# Altium schematic symbol library STM32.SchLib: 8 symbols
Pins are listed as number, name and electrical type; pins without a type are passive.

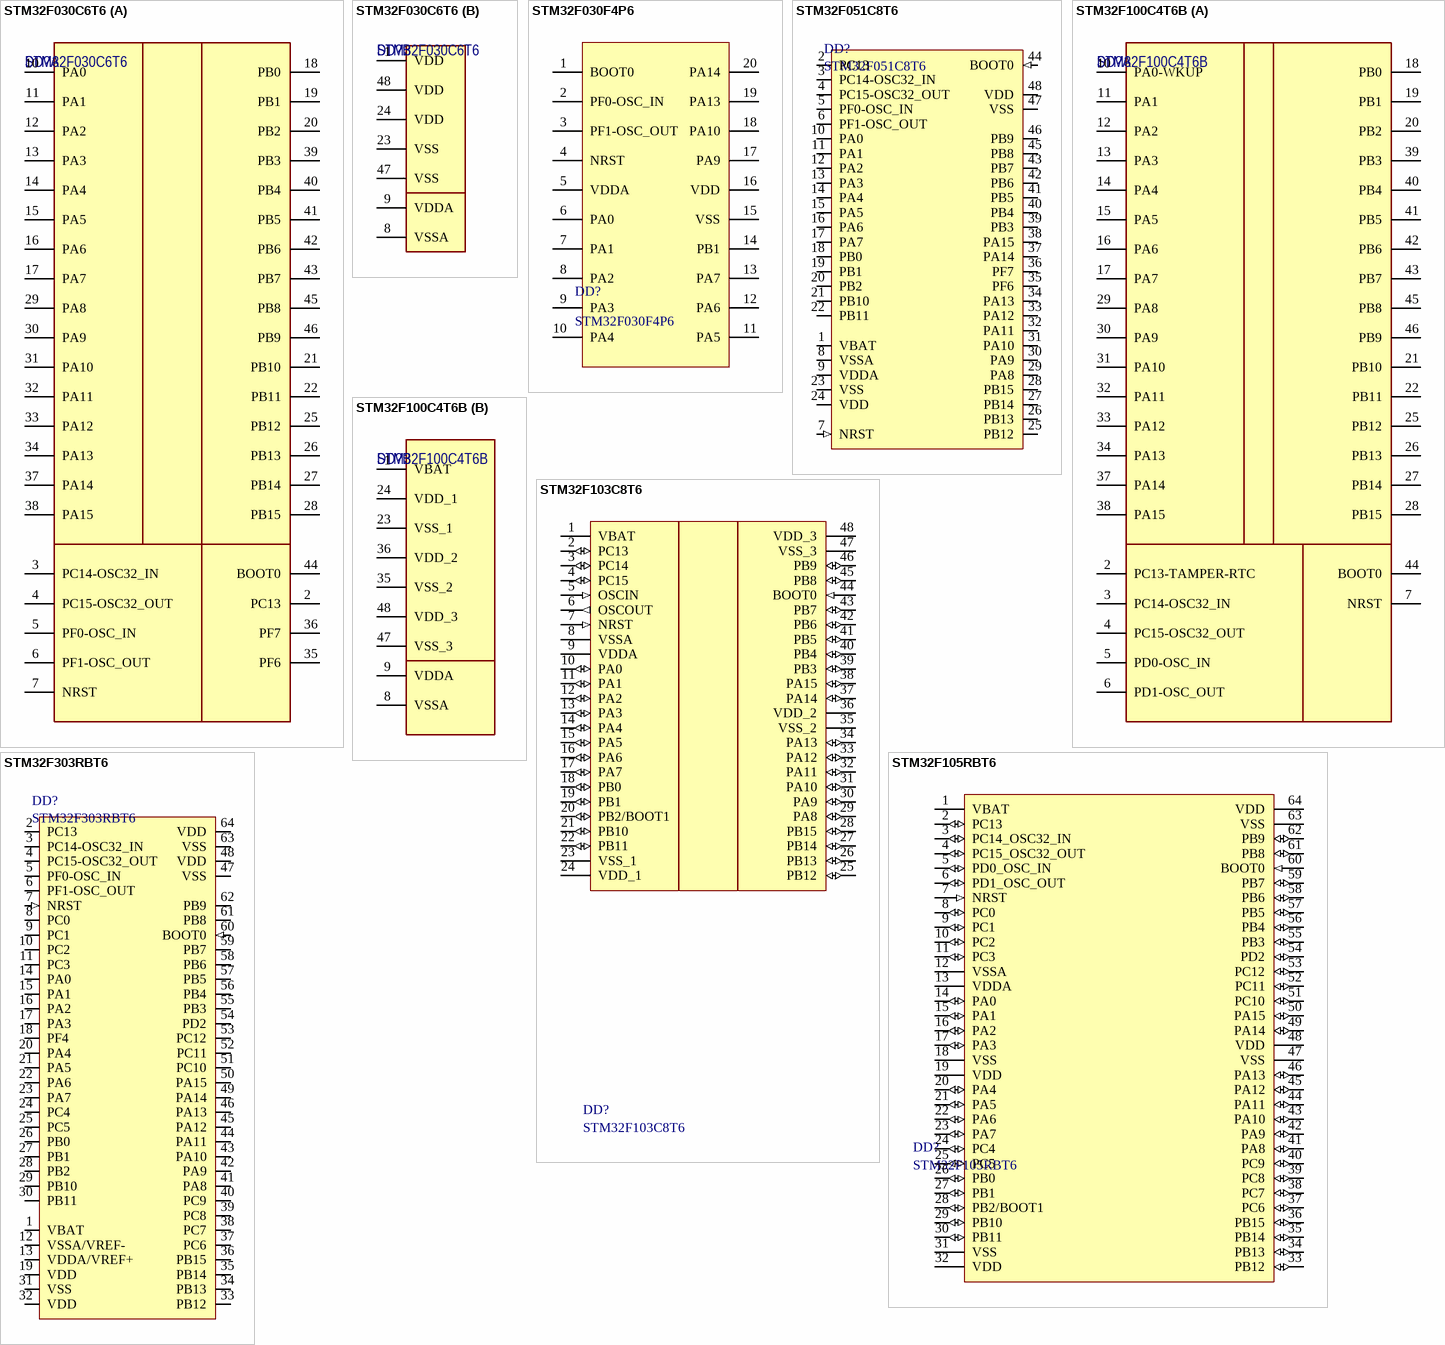
[diagram p0: symbols STM32F030C6T6 to STM32F303RBT6]

## STM32F030C6T6
designator DD?
Микроконтроллер ARM; Flash:32кБ; 48МГц; SRAM:4кБ; LQFP48; Manufacturer: ST MICROELECTRONICS; ComponentLink1URL: http://www.tme.eu/ru/details/stm32f030c6t6/mikrokontrolljery-st/st-microelectronics/; ComponentLink1Description: http://www.tme.eu/ru/details/stm32f030c6t6/mikrokontrolljery-st/st-microelectronics/; ManufacturerPartNumber: STM32F030C6T6; Note: *; Price: 110; Supplier: Промэлектроника
footprint LQFP48-7x7 (TSQFP, 48-Leads, Body 7,00x7,00mm, Pitch 0,50mm, IPC Low Density)
part A pins: 2 PC13, 3 PC14-OSC32_IN, 4 PC15-OSC32_OUT, 5 PF0-OSC_IN, 6 PF1-OSC_OUT, 7 NRST, 10 PA0, 11 PA1, 12 PA2, 13 PA3, 14 PA4, 15 PA5, 16 PA6, 17 PA7, 18 PB0, 19 PB1, 20 PB2, 21 PB10, 22 PB11, 25 PB12, 26 PB13, 27 PB14, 28 PB15, 29 PA8, 30 PA9, 31 PA10, 32 PA11, 33 PA12, 34 PA13, 35 PF6, 36 PF7, 37 PA14, 38 PA15, 39 PB3, 40 PB4, 41 PB5, 42 PB6, 43 PB7, 44 BOOT0, 45 PB8, 46 PB9
part B pins: 1 VDD, 8 VSSA, 9 VDDA, 23 VSS, 24 VDD, 47 VSS, 48 VDD

## STM32F030F4P6
designator DD?
MCU 32-bit STM32 ARM Cortex M0 RISC 16KB Flash 2.5V/3.3V 20-Pin TSSOP Tray; Manufacturer: STMicroelectronics; Max Supply Voltage: 3.6V; Frequency: 48MHz; Interface: I2C,SPI,UART,USART; RAM Size: 4KB; Max Power Dissipation: 182mW; Number of I/Os: 15; Number of Timers/Counters: 5; Min Supply Voltage: 2.4V; Number of ADC Channels: 16; Oscillator Type: Internal; Data Bus Width: 32b; Number of SPI Channels: 1; Watchdog Timer: Yes; Peripherals: POR,PWM,WDT,DMA; Number of PWM Channels: 6; Supplier 1: Digi-Key; ManufacturerPartNumber: STM32F030F4P6; Stock 1: 3757; Pricing 1: 1=1.37, 10=1.221, 100=0.9522, 500=0.7866, 1000=0.621 (USD); Case/Package: TSSOP; Number of Pins: 20; Contact Plating: Nickel,Gold; Min Operating Temperature: -40°C; Max Operating Temperature: 85°C; Package Quantity: 74; Packaging: Rail/Tube; Number of Programmable I/O: 15; Max Frequency: 48MHz; Number of I2C Channels: 1; Memory Type: FLASH; Memory Size: 16KB; Core Architecture: ARM; Length: 6.6mm; Height: 1.05mm; Width: 4.5mm; Radiation Hardening: No; REACH SVHC: No SVHC; Lead Free: Lead Free; ComponentLink1URL: https://datasheet.ciiva.com/29720/dm00088500-29720640.pdf; ComponentLink1Description: https://datasheet.ciiva.com/29720/dm00088500-29720640.pdf; ComponentLink2URL: https://datasheet.ciiva.com/24153/dm00088500-24153277.pdf; ComponentLink2Description: https://datasheet.ciiva.com/24153/dm00088500-24153277.pdf; ComponentLink3URL: https://datasheet.ciiva.com/24011/dm00088500-490353-24011901.pdf; ComponentLink3Description: https://datasheet.ciiva.com/24011/dm00088500-490353-24011901.pdf; ComponentLink4URL: https://datasheet.ciiva.com/29987/dm00088500-29987015.pdf; ComponentLink4Description: https://datasheet.ciiva.com/29987/dm00088500-29987015.pdf; Supplier Part Number 1: 497-14044-5-ND
footprint TSOP65P640X120-20N (TSOP, 20-Leads, Body 6,50x4,40mm, Pitch 0,65mm, IPC Medium Density)
pins: 1 BOOT0, 2 PF0-OSC_IN, 3 PF1-OSC_OUT, 4 NRST, 5 VDDA, 6 PA0, 7 PA1, 8 PA2, 9 PA3, 10 PA4, 11 PA5, 12 PA6, 13 PA7, 14 PB1, 15 VSS, 16 VDD, 17 PA9, 18 PA10, 19 PA13, 20 PA14

## STM32F051C8T6
designator DD?
IC MCU 32BIT 64KB FLASH 48LQFP; Manufacturer: STMicroelectronics; Frequency: 48MHz; RAM Size: 8KB; Max Supply Voltage: 3.6V; Number of Timers/Counters: 8; Max Power Dissipation: 364mW; Interface: I2C,SPI,HDMI,I2S,IrDA,UART,USART,LIN; Number of I/Os: 39; Number of ADC Channels: 13; Min Supply Voltage: 2V; Data Bus Width: 32b; Oscillator Type: Internal; Watchdog Timer: Yes; Peripherals: POR,PWM,WDT,DMA,I2C; Core Architecture: ARM; Number of PWM Channels: 1; Number of SPI Channels: 2; Supplier 1: Digi-Key; Manufacturer Part Number: STM32F051C8T6; Stock 1: 16869; Pricing 1: 1=2.87, 10=2.576, 100=2.0704, 500=1.701, 1000=1.4094 (USD); Case/Package: LQFP; Number of Pins: 48; Contact Plating: Tin,Gold; Min Operating Temperature: -40°C; Max Operating Temperature: 85°C; Package Quantity: 1500; Packaging: Tray; Number of Programmable I/O: 39; Max Frequency: 48MHz; Memory Type: FLASH; Memory Size: 64KB; Number of I2C Channels: 2; Length: 7.2mm; Height: 1.45mm; Width: 7.2mm; Radiation Hardening: No; REACH SVHC: No SVHC; Lead Free: Lead Free; ComponentLink1URL: https://datasheet.ciiva.com/25627/0900766b810e518b-25627967.pdf; ComponentLink1Description: https://datasheet.ciiva.com/25627/0900766b810e518b-25627967.pdf; ComponentLink2URL: https://datasheet.ciiva.com/4842/dm00039193-490390-4842310.pdf; ComponentLink2Description: https://datasheet.ciiva.com/4842/dm00039193-490390-4842310.pdf; ComponentLink3URL: https://datasheet.ciiva.com/16490/dm00039193-16490854.pdf; ComponentLink3Description: https://datasheet.ciiva.com/16490/dm00039193-16490854.pdf; ComponentLink4URL: https://datasheet.ciiva.com/9224/dm00039193-9224905.pdf; ComponentLink4Description: https://datasheet.ciiva.com/9224/dm00039193-9224905.pdf; Supplier Part Number 1: 497-12893-ND
footprint LQFP48-7x7 (TSQFP, 48-Leads, Body 7,00x7,00mm, Pitch 0,50mm, IPC Low Density)
pins: 1 VBAT (power), 2 PC13 (io), 3 PC14-OSC32_IN (io), 4 PC15-OSC32_OUT (io), 5 PF0-OSC_IN (io), 6 PF1-OSC_OUT (io), 7 NRST (in), 8 VSSA (power), 9 VDDA (power), 10 PA0 (io), 11 PA1 (io), 12 PA2 (io), 13 PA3 (io), 14 PA4 (io), 15 PA5 (io), 16 PA6 (io), 17 PA7 (io), 18 PB0 (io), 19 PB1 (io), 20 PB2 (io), 21 PB10 (io), 22 PB11 (io), 23 VSS (power), 24 VDD (power), 25 PB12 (io), 26 PB13 (io), 27 PB14 (io), 28 PB15 (io), 29 PA8 (io), 30 PA9 (io), 31 PA10 (io), 32 PA11 (io), 33 PA12 (io), 34 PA13 (io), 35 PF6 (io), 36 PF7 (io), 37 PA14 (io), 38 PA15 (io), 39 PB3 (io), 40 PB4 (io), 41 PB5 (io), 42 PB6 (io), 43 PB7 (io), 44 BOOT0 (in), 45 PB8 (io), 46 PB9 (io), 47 VSS (power), 48 VDD (power)

## STM32F100C4T6B
designator DD?
Микроконтроллеры ARM 32BIT CORTEX M3 48PINS 16KB; Manufacturer: STMicroelectronics; ManufacturerPartNumber: STM32F100C4T6B; ComponentLink1URL: http://www.mouser.com/ds/2/389/CD00251732-315248.pdf; ComponentLink1Description: http://www.mouser.com/ds/2/389/CD00251732-315248.pdf; Price: 110; Note: *; Supplier: Промэлектроника
footprint LQFP48-7x7 (TSQFP, 48-Leads, Body 7,00x7,00mm, Pitch 0,50mm, IPC Low Density)
part A pins: 2 PC13-TAMPER-RTC, 3 PC14-OSC32_IN, 4 PC15-OSC32_OUT, 5 PD0-OSC_IN, 6 PD1-OSC_OUT, 7 NRST, 10 PA0-WKUP, 11 PA1, 12 PA2, 13 PA3, 14 PA4, 15 PA5, 16 PA6, 17 PA7, 18 PB0, 19 PB1, 20 PB2, 21 PB10, 22 PB11, 25 PB12, 26 PB13, 27 PB14, 28 PB15, 29 PA8, 30 PA9, 31 PA10, 32 PA11, 33 PA12, 34 PA13, 37 PA14, 38 PA15, 39 PB3, 40 PB4, 41 PB5, 42 PB6, 43 PB7, 44 BOOT0, 45 PB8, 46 PB9
part B pins: 1 VBAT, 8 VSSA, 9 VDDA, 23 VSS_1, 24 VDD_1, 35 VSS_2, 36 VDD_2, 47 VSS_3, 48 VDD_3

## STM32F103C8T6
designator DD?
MCU 32-bit STM32F ARM Cortex M3 RISC 64KB Flash 2.5V/3.3V 48-Pin LQFP Tray; Manufacturer: STMicroelectronics; RAM Size: 20KB; Frequency: 72MHz; Number of Timers/Counters: 4; Number of ADC Channels: 10; Data Bus Width: 32b; Number of Bits: 32; Max Power Dissipation: 363mW; Interface: I2C,SPI,USB,CAN,IrDA,UART,USART,LIN; Number of I/Os: 37; Max Supply Voltage: 3.6V; Min Supply Voltage: 2V; Oscillator Type: Internal; Number of Programmable I/O: 48; Number of SPI Channels: 2; Watchdog Timer: Yes; Peripherals: POR,PWM,WDT,DMA,Temp Sensor,I2C; Number of PWM Channels: 1; Supplier 1: Mouser; Manufacturer Part Number: STM32F103C8T6; Stock 1: 7154; Pricing 1: 1=6.05, 10=5.15, 50=5.15, 100=4.46, 1000=3.2, 10000=3.04 (USD); Case/Package: LQFP; Number of Pins: 48; Min Operating Temperature: -40°C; Max Operating Temperature: 85°C; Packaging: Tray; Density: 64KB; Memory Type: FLASH; Max Frequency: 72MHz; Memory Size: 64KB; Core Architecture: ARM; Package Quantity: 250; Number of I2C Channels: 2; Termination: SMD/SMT; Address Bus Width: 32b; Length: 7mm; Height: 1.45mm; Width: 7.2mm; Radiation Hardening: No; Lead Free: Lead Free; REACH SVHC: No SVHC; ComponentLink1URL: https://datasheet.ciiva.com/15122/getdatasheetpartid-69880-15122076.pdf; ComponentLink1Description: https://datasheet.ciiva.com/15122/getdatasheetpartid-69880-15122076.pdf; ComponentLink2URL: https://datasheet.ciiva.com/26816/stm32f103c8t6-26816902.pdf; ComponentLink2Description: https://datasheet.ciiva.com/26816/stm32f103c8t6-26816902.pdf; ComponentLink3URL: https://datasheet.ciiva.com/16210/cd00161566-16210248.pdf; ComponentLink3Description: https://datasheet.ciiva.com/16210/cd00161566-16210248.pdf; ComponentLink4URL: https://datasheet.ciiva.com/14100/pustm-arm-microcont-stm32f103-en-14100508.pdf; ComponentLink4Description: https://datasheet.ciiva.com/14100/pustm-arm-microcont-stm32f103-en-14100508.pdf; ComponentLink5URL: https://datasheet.ciiva.com/8054/1730126-8054942.pdf; ComponentLink5Description: https://datasheet.ciiva.com/8054/1730126-8054942.pdf; ComponentLink6URL: https://datasheet.ciiva.com/48687/001075658-da-01-en-mcu-64kb-mem-stm32f103c8t6-lqfp-48-stm-48687589.pdf; ComponentLink6Description: https://datasheet.ciiva.com/48687/001075658-da-01-en-mcu-64kb-mem-stm32f103c8t6-lqfp-48-stm-48687589.pdf; Supplier Part Number 1: 511-STM32F103C8T6
footprint LQFP48-7x7 (TSQFP, 48-Leads, Body 7,00x7,00mm, Pitch 0,50mm, IPC Low Density)
pins: 1 VBAT (power), 2 PC13 (io), 3 PC14 (io), 4 PC15 (io), 5 OSCIN (in), 6 OSCOUT (out), 7 NRST (in), 8 VSSA (power), 9 VDDA (power), 10 PA0 (io), 11 PA1 (io), 12 PA2 (io), 13 PA3 (io), 14 PA4 (io), 15 PA5 (io), 16 PA6 (io), 17 PA7 (io), 18 PB0 (io), 19 PB1 (io), 20 PB2/BOOT1 (io), 21 PB10 (io), 22 PB11 (io), 23 VSS_1, 24 VDD_1, 25 PB12 (io), 26 PB13 (io), 27 PB14 (io), 28 PB15 (io), 29 PA8 (io), 30 PA9 (io), 31 PA10 (io), 32 PA11 (io), 33 PA12 (io), 34 PA13 (io), 35 VSS_2 (power), 36 VDD_2 (power), 37 PA14 (io), 38 PA15 (io), 39 PB3 (io), 40 PB4 (io), 41 PB5 (io), 42 PB6 (io), 43 PB7 (io), 44 BOOT0 (in), 45 PB8 (io), 46 PB9 (io), 47 VSS_3 (power), 48 VDD_3 (power)

## STM32F105RBT6
designator DD?
ARM Microcontrollers - MCU 32BIT Cortex 64/25 CONNECTIVITY LINE M3; Manufacturer: STMicroelectronics; Interface: I2C,SPI,USB,CAN,I2S,IrDA,UART,USART,LIN; Number of Timers/Counters: 7; Frequency: 72MHz; RAM Size: 32KB; Max Supply Voltage: 3.6V; Number of I/Os: 51; Max Power Dissipation: 444mW; Min Supply Voltage: 2V; Data Bus Width: 32b; Oscillator Type: Internal; Watchdog Timer: Yes; Memory Type: FLASH; Memory Size: 128KB; Peripherals: POR,PWM,WDT,DMA,Voltage Detect,I2C; Number of PWM Channels: 16; Number of SPI Channels: 3; Number of I2C Channels: 2; Supplier 1: Mouser; Manufacturer Part Number: STM32F105RBT6; Stock 1: 2575; Pricing 1: 1=7.14, 10=6.46, 50=6.16, 100=5.34, 1000=4.06, 10000=4.06 (USD); Case/Package: LQFP; Number of Pins: 64; Min Operating Temperature: -40°C; Max Operating Temperature: 85°C; Package Quantity: 160; Packaging: Tray; Number of Programmable I/O: 51; Max Frequency: 72MHz; Core Architecture: ARM; Number of ADC Channels: 16; Density: 128KB; Termination: SMD/SMT; Length: 10mm; Height: 1.45mm; Width: 10mm; Radiation Hardening: No; Lead Free: Lead Free; REACH SVHC: No SVHC; ComponentLink1URL: https://datasheet.ciiva.com/15122/getdatasheetpartid-113902-15122350.pdf; ComponentLink1Description: https://datasheet.ciiva.com/15122/getdatasheetpartid-113902-15122350.pdf; ComponentLink2URL: https://datasheet.ciiva.com/26817/stm32f105rbt6-26817326.pdf; ComponentLink2Description: https://datasheet.ciiva.com/26817/stm32f105rbt6-26817326.pdf; ComponentLink3URL: https://datasheet.ciiva.com/8054/1805458-8054982.pdf; ComponentLink3Description: https://datasheet.ciiva.com/8054/1805458-8054982.pdf; ComponentLink4URL: https://datasheet.ciiva.com/48687/001075692-da-01-en-mcu-128kb-mem-stm32f105rbt6-lqfp-64-stm-48687452.pdf; ComponentLink4Description: https://datasheet.ciiva.com/48687/001075692-da-01-en-mcu-128kb-mem-stm32f105rbt6-lqfp-64-stm-48687452.pdf; Supplier Part Number 1: 511-STM32F105RBT6
footprint LQFP64-10x10 (LQFP, 64-Leads, Body 10,00x10,00mm, Pitch 0,50mm, IPC Medium Density)
pins: 1 VBAT (power), 2 PC13 (io), 3 PC14_OSC32_IN (io), 4 PC15_OSC32_OUT (io), 5 PD0_OSC_IN (io), 6 PD1_OSC_OUT (io), 7 NRST (in), 8 PC0 (io), 9 PC1 (io), 10 PC2 (io), 11 PC3 (io), 12 VSSA (power), 13 VDDA (power), 14 PA0 (io), 15 PA1 (io), 16 PA2 (io), 17 PA3 (io), 18 VSS (power), 19 VDD (power), 20 PA4 (io), 21 PA5 (io), 22 PA6 (io), 23 PA7 (io), 24 PC4 (io), 25 PC5 (io), 26 PB0 (io), 27 PB1 (io), 28 PB2/BOOT1 (io), 29 PB10 (io), 30 PB11 (io), 31 VSS (power), 32 VDD (power), 33 PB12 (io), 34 PB13 (io), 35 PB14 (io), 36 PB15 (io), 37 PC6 (io), 38 PC7 (io), 39 PC8 (io), 40 PC9 (io), 41 PA8 (io), 42 PA9 (io), 43 PA10 (io), 44 PA11 (io), 45 PA12 (io), 46 PA13 (io), 47 VSS (power), 48 VDD (power), 49 PA14 (io), 50 PA15 (io), 51 PC10 (io), 52 PC11 (io), 53 PC12 (io), 54 PD2 (io), 55 PB3 (io), 56 PB4 (io), 57 PB5 (io), 58 PB6 (io), 59 PB7 (io), 60 BOOT0 (in), 61 PB8 (io), 62 PB9 (io), 63 VSS (power), 64 VDD (power)

## STM32F303RBT6
designator DD?
ARM Microcontrollers - MCU 32-Bit ARM Cortex M4 72MHz 128kB MCU FPU; Manufacturer: STMicroelectronics; RAM Size: 32KB; Max Supply Voltage: 3.6V; Number of I/Os: 27; Min Supply Voltage: 2V; Number of Timers/Counters: 10; Interface: I2C,SPI,USB,CAN,I2S,IrDA,UART,USART,LIN; Oscillator Type: Internal; Data Bus Width: 32b; Number of USB Channels: 1; Number of ADC Channels: 39; Number of SPI Channels: 3; Number of PWM Channels: 6; Number of I2C Channels: 2; Number of Programmable I/O: 52; Watchdog Timer: Yes; Memory Type: FLASH; Peripherals: POR,PWM,WDT,DMA; Supplier 1: Digi-Key; Manufacturer Part Number: STM32F303RBT6; Stock 1: 1227; Pricing 1: 1=5.55, 10=4.984, 100=4.0833, 500=3.476, 1000=2.9316 (USD); Case/Package: LQFP; Number of Pins: 64; Min Operating Temperature: -40°C; Max Operating Temperature: 85°C; Frequency: 72MHz; Memory Size: 128KB; Package Quantity: 160; Packaging: Tray; Max Frequency: 72MHz; Number of UART Channels: 2; Core Architecture: ARM; Length: 10.2mm; Height: 1.45mm; Width: 10.2mm; Radiation Hardening: No; REACH SVHC: No SVHC; Lead Free: Lead Free; ComponentLink1URL: https://datasheet.ciiva.com/29987/dm00058181-29987162.pdf; ComponentLink1Description: https://datasheet.ciiva.com/29987/dm00058181-29987162.pdf; Supplier Part Number 1: 497-17423-ND
footprint LQFP64-10x10 (LQFP, 64-Leads, Body 10,00x10,00mm, Pitch 0,50mm, IPC Medium Density)
pins: 1 VBAT (power), 2 PC13 (io), 3 PC14-OSC32_IN (io), 4 PC15-OSC32_OUT (io), 5 PF0-OSC_IN (io), 6 PF1-OSC_OUT (io), 7 NRST (in), 8 PC0 (io), 9 PC1 (io), 10 PC2 (io), 11 PC3 (io), 12 VSSA/VREF- (power), 13 VDDA/VREF+ (power), 14 PA0 (io), 15 PA1 (io), 16 PA2 (io), 17 PA3 (io), 18 PF4 (io), 19 VDD (power), 20 PA4 (io), 21 PA5 (io), 22 PA6 (io), 23 PA7 (io), 24 PC4 (io), 25 PC5 (io), 26 PB0 (io), 27 PB1 (io), 28 PB2 (io), 29 PB10 (io), 30 PB11 (io), 31 VSS (power), 32 VDD (power), 33 PB12 (io), 34 PB13 (io), 35 PB14 (io), 36 PB15 (io), 37 PC6 (io), 38 PC7 (io), 39 PC8 (io), 40 PC9 (io), 41 PA8 (io), 42 PA9 (io), 43 PA10 (io), 44 PA11 (io), 45 PA12 (io), 46 PA13 (io), 47 VSS (power), 48 VDD (power), 49 PA14 (io), 50 PA15 (io), 51 PC10 (io), 52 PC11 (io), 53 PC12 (io), 54 PD2 (io), 55 PB3 (io), 56 PB4 (io), 57 PB5 (io), 58 PB6 (io), 59 PB7 (io), 60 BOOT0 (in), 61 PB8 (io), 62 PB9 (io), 63 VSS (power), 64 VDD (power)

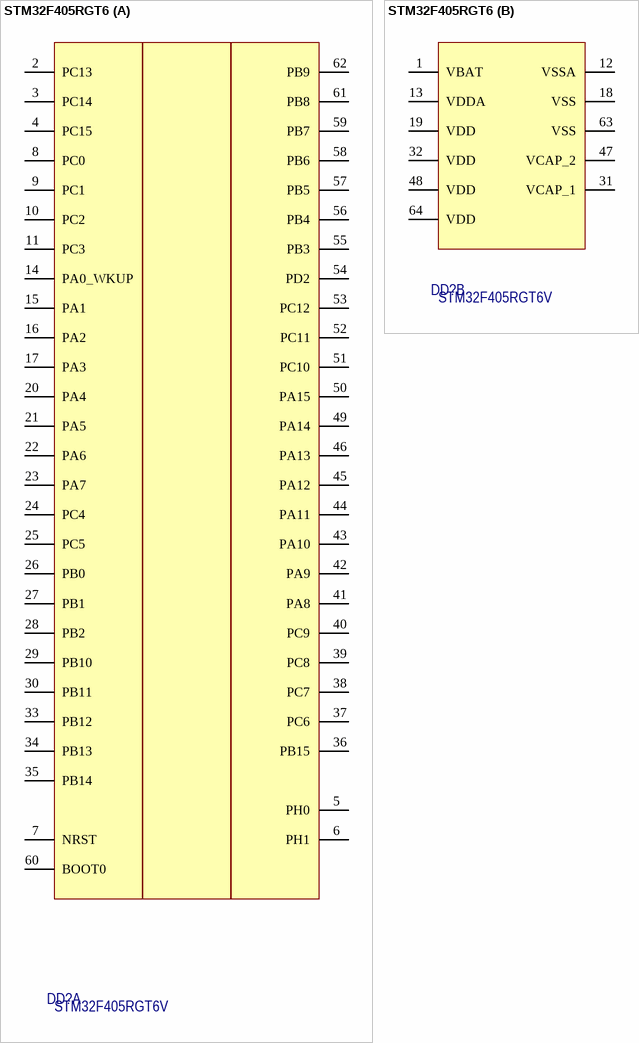
[diagram p1: symbol STM32F405RGT6]

## STM32F405RGT6
designator DD?, comment STM32F405RGT6V
ARM Microcontrollers - MCU 32B ARM Cortex-M4 1Mb Flash 168MHz CPU; Manufacturer: STMicroelectronics; ManufacturerPartNumber: STM32F405RGT6V; ComponentLink1URL: http://www.mouser.com/ds/2/389/DM00037051-492832.pdf; ComponentLink1Description: http://www.mouser.com/ds/2/389/DM00037051-492832.pdf; Supplier: Промэлектроника; Note: *; Price: 110
footprint LQFP64-10x10 (LQFP, 64-Leads, Body 10,00x10,00mm, Pitch 0,50mm, IPC Medium Density)
part A pins: 2 PC13, 3 PC14, 4 PC15, 5 PH0, 6 PH1, 7 NRST, 8 PC0, 9 PC1, 10 PC2, 11 PC3, 14 PA0_WKUP, 15 PA1, 16 PA2, 17 PA3, 20 PA4, 21 PA5, 22 PA6, 23 PA7, 24 PC4, 25 PC5, 26 PB0, 27 PB1, 28 PB2, 29 PB10, 30 PB11, 33 PB12, 34 PB13, 35 PB14, 36 PB15, 37 PC6, 38 PC7, 39 PC8, 40 PC9, 41 PA8, 42 PA9, 43 PA10, 44 PA11, 45 PA12, 46 PA13, 49 PA14, 50 PA15, 51 PC10, 52 PC11, 53 PC12, 54 PD2, 55 PB3, 56 PB4, 57 PB5, 58 PB6, 59 PB7, 60 BOOT0, 61 PB8, 62 PB9
part B pins: 1 VBAT, 12 VSSA, 13 VDDA, 18 VSS, 19 VDD, 31 VCAP_1, 32 VDD, 47 VCAP_2, 48 VDD, 63 VSS, 64 VDD